# EAGLE library part EA_OLEDL128-6 (library ea_v66)
ELECTRONIC ASSEMBLY EA OLEDL128-6LGA EA OLEDL128-6LWA EA OLEDL128-6GGA EA OLEDL128-6NGA
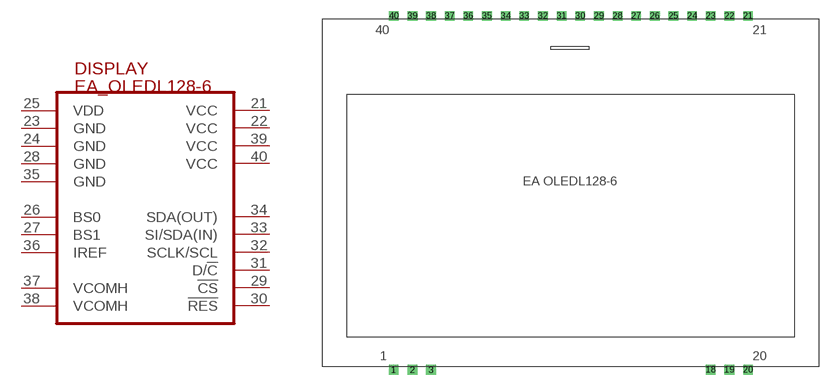
[diagram p17: symbol with the pads of EA_OLEDL128-6; footprint EA_OLEDL128-6]

Designator prefix DISPLAY

## EA_OLEDL128-6  [EA_OLEDL128-6]
21  VCC  pwr
22  VCC  pwr
23  GND  pwr
24  GND  pwr
25  VDD  pwr
26  BS0  in
27  BS1  in
28  GND  pwr
29  !CS!  in
30  !RES!  in
31  D/!C!  in
32  SCLK/SCL  in
33  SI/SDA(IN)  in
34  SDA(OUT)  out
35  GND  pwr
36  IREF  pas
37  VCOMH  pas
38  VCOMH  pas
39  VCC  pwr
40  VCC  pwr

## Footprint EA_OLEDL128-6 (pad centres in mm)
drill 0.813 square: 1 0,0; 2 2.54,0; 3 5.08,0; 18 43.18,0; 19 45.72,0; 20 48.26,0; 21 48.26,48.26; 22 45.72,48.26; 23 43.18,48.26; 24 40.64,48.26; 25 38.1,48.26; 26 35.56,48.26; 27 33.02,48.26; 28 30.48,48.26; 29 27.94,48.26; 30 25.4,48.26; 31 22.86,48.26; 32 20.32,48.26; 33 17.78,48.26; 34 15.24,48.26; 35 12.7,48.26; 36 10.16,48.26; 37 7.62,48.26; 38 5.08,48.26; 39 2.54,48.26; 40 0,48.26